# EAGLE library part XKB5858-Z-F-75 (library edrtech_lib)
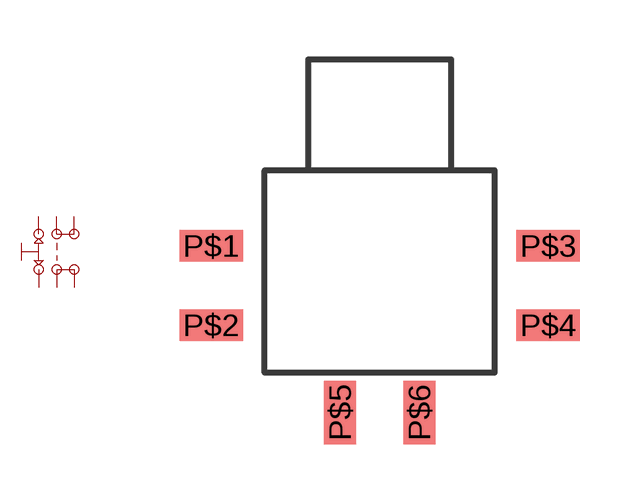
[diagram p5: symbol with the pads of XKB5858; footprint XKB5858]

Designator prefix -

## XKB5858-Z-F-75  [XKB5858]
P$1  P$1
P$2  P$2
P$3  P$3
P$4  P$4
P$5  P$5
P$6  P$6

## Footprint XKB5858 (pad centres in mm)
smd 1.6 x 0.8: P$1 -4.25,1; P$2 -4.25,-1; P$3 4.25,1; P$4 4.25,-1
smd 0.8 x 1.6: P$5 -1,-3.2; P$6 1,-3.2